# Altium schematic symbol library jlcpcb_2025_04_resistors_extended_1812.schlib: 557 symbols (part 7 of 9)
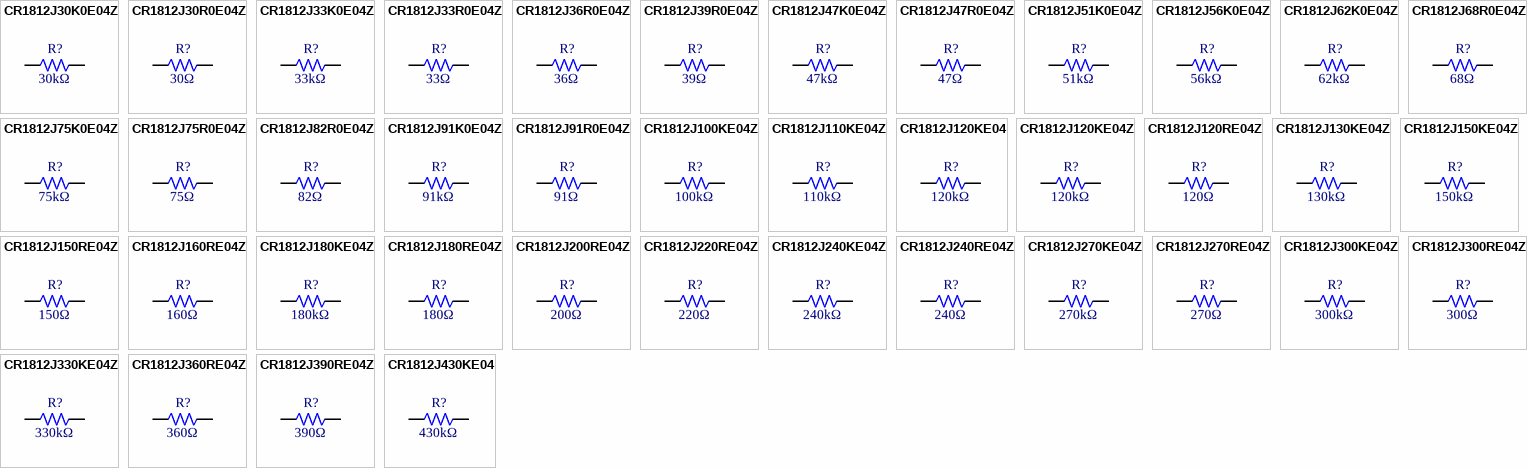
[diagram p19: symbols CR1812J30K0E04Z to CR1812J430KE04]

## CR1812J82R0E04Z
designator R?  Resistance: 82Ω  (hidden comment: *)
Resistor, 82Ω, ±5%, 500mW, 200V, ±100ppm/℃, -55℃~+155℃, SMD 1812; Manufacturer: Uniroyal; Manufacturer Part Number: CR1812J82R0E04Z; Supplier 1: LCSC; Supplier Part Number 1: C174842; JLCPCB Part Number: C174842; Power Rating: 500mW; Category: Resistors; Package Size: 1812; JLCPCB Basic Part: Yes; Tolerance: ±5%; Voltage Rating: 200V; Temperature Coefficient: ±100ppm/℃; Temperature Rating: -55℃~+155℃; ComponentLink1Description: Datasheet; ComponentLink1URL: https://wmsc.lcsc.com/wmsc/upload/file/pdf/v2/lcsc/2304140030_Ever-Ohms-Tech-CR1812J82R0E04Z_C174842.pdf; ComponentLink2Description: JLCPCB Part URL; ComponentLink2URL: https://jlcpcb.com/partdetail/C174842
pins: 1, 2
1 alternate drawing of the same symbol

## CR1812J91K0E04Z
designator R?  Resistance: 91kΩ  (hidden comment: *)
Resistor, 91kΩ, ±5%, 500mW, 200V, ±100ppm/℃, -55℃~+155℃, SMD 1812; Manufacturer: Uniroyal; Manufacturer Part Number: CR1812J91K0E04Z; Supplier 1: LCSC; Supplier Part Number 1: C174895; JLCPCB Part Number: C174895; Power Rating: 500mW; Category: Resistors; Package Size: 1812; JLCPCB Basic Part: Yes; Tolerance: ±5%; Voltage Rating: 200V; Temperature Coefficient: ±100ppm/℃; Temperature Rating: -55℃~+155℃; ComponentLink1Description: Datasheet; ComponentLink1URL: https://wmsc.lcsc.com/wmsc/upload/file/pdf/v2/lcsc/2304140030_Ever-Ohms-Tech-CR1812J91K0E04Z_C174895.pdf; ComponentLink2Description: JLCPCB Part URL; ComponentLink2URL: https://jlcpcb.com/partdetail/C174895
pins: 1, 2
1 alternate drawing of the same symbol

## CR1812J91R0E04Z
designator R?  Resistance: 91Ω  (hidden comment: *)
Resistor, 91Ω, ±5%, 500mW, 200V, ±100ppm/℃, -55℃~+155℃, SMD 1812; Manufacturer: Uniroyal; Manufacturer Part Number: CR1812J91R0E04Z; Supplier 1: LCSC; Supplier Part Number 1: C174843; JLCPCB Part Number: C174843; Power Rating: 500mW; Category: Resistors; Package Size: 1812; JLCPCB Basic Part: Yes; Tolerance: ±5%; Voltage Rating: 200V; Temperature Coefficient: ±100ppm/℃; Temperature Rating: -55℃~+155℃; ComponentLink1Description: Datasheet; ComponentLink1URL: https://wmsc.lcsc.com/wmsc/upload/file/pdf/v2/lcsc/2304140030_Ever-Ohms-Tech-CR1812J91R0E04Z_C174843.pdf; ComponentLink2Description: JLCPCB Part URL; ComponentLink2URL: https://jlcpcb.com/partdetail/C174843
pins: 1, 2
1 alternate drawing of the same symbol

## CR1812J100KE04Z
designator R?  Resistance: 100kΩ  (hidden comment: *)
Resistor, 100kΩ, ±5%, 500mW, 200V, ±100ppm/℃, -55℃~+155℃, SMD 1812; Manufacturer: Uniroyal; Manufacturer Part Number: CR1812J100KE04Z; Supplier 1: LCSC; Supplier Part Number 1: C146963; JLCPCB Part Number: C146963; Power Rating: 500mW; Category: Resistors; Package Size: 1812; JLCPCB Basic Part: Yes; Tolerance: ±5%; Voltage Rating: 200V; Temperature Coefficient: ±100ppm/℃; Temperature Rating: -55℃~+155℃; ComponentLink1Description: Datasheet; ComponentLink1URL: https://wmsc.lcsc.com/wmsc/upload/file/pdf/v2/lcsc/2304140030_Ever-Ohms-Tech-CR1812J100KE04Z_C146963.pdf; ComponentLink2Description: JLCPCB Part URL; ComponentLink2URL: https://jlcpcb.com/partdetail/C146963
pins: 1, 2
1 alternate drawing of the same symbol

## CR1812J110KE04Z
designator R?  Resistance: 110kΩ  (hidden comment: *)
Resistor, 110kΩ, ±5%, 500mW, 200V, ±100ppm/℃, -55℃~+155℃, SMD 1812; Manufacturer: Uniroyal; Manufacturer Part Number: CR1812J110KE04Z; Supplier 1: LCSC; Supplier Part Number 1: C174896; JLCPCB Part Number: C174896; Power Rating: 500mW; Category: Resistors; Package Size: 1812; JLCPCB Basic Part: Yes; Tolerance: ±5%; Voltage Rating: 200V; Temperature Coefficient: ±100ppm/℃; Temperature Rating: -55℃~+155℃; ComponentLink1Description: Datasheet; ComponentLink1URL: https://wmsc.lcsc.com/wmsc/upload/file/pdf/v2/lcsc/2304140030_Ever-Ohms-Tech-CR1812J110KE04Z_C174896.pdf; ComponentLink2Description: JLCPCB Part URL; ComponentLink2URL: https://jlcpcb.com/partdetail/C174896
pins: 1, 2
1 alternate drawing of the same symbol

## CR1812J120KE04
designator R?  Resistance: 120kΩ  (hidden comment: *)
Resistor, 120kΩ, ±5%, 750mW, 200V, ±200ppm/℃, -55℃~+155℃, SMD 1812; Manufacturer: Uniroyal; Manufacturer Part Number: CR1812J120KE04; Supplier 1: LCSC; Supplier Part Number 1: C429627; JLCPCB Part Number: C429627; Power Rating: 750mW; Category: Resistors; Package Size: 1812; JLCPCB Basic Part: Yes; Tolerance: ±5%; Voltage Rating: 200V; Temperature Coefficient: ±200ppm/℃; Temperature Rating: -55℃~+155℃; ComponentLink1Description: Datasheet; ComponentLink1URL: https://wmsc.lcsc.com/wmsc/upload/file/pdf/v2/lcsc/2304140030_Ever-Ohms-Tech-CR1812J120KE04_C429627.pdf; ComponentLink2Description: JLCPCB Part URL; ComponentLink2URL: https://jlcpcb.com/partdetail/C429627
pins: 1, 2
1 alternate drawing of the same symbol

## CR1812J120KE04Z
designator R?  Resistance: 120kΩ  (hidden comment: *)
Resistor, 120kΩ, ±5%, 500mW, 200V, ±100ppm/℃, -55℃~+155℃, SMD 1812; Manufacturer: Uniroyal; Manufacturer Part Number: CR1812J120KE04Z; Supplier 1: LCSC; Supplier Part Number 1: C146910; JLCPCB Part Number: C146910; Power Rating: 500mW; Category: Resistors; Package Size: 1812; JLCPCB Basic Part: Yes; Tolerance: ±5%; Voltage Rating: 200V; Temperature Coefficient: ±100ppm/℃; Temperature Rating: -55℃~+155℃; ComponentLink1Description: Datasheet; ComponentLink1URL: https://wmsc.lcsc.com/wmsc/upload/file/pdf/v2/lcsc/2304140030_Ever-Ohms-Tech-CR1812J120KE04Z_C146910.pdf; ComponentLink2Description: JLCPCB Part URL; ComponentLink2URL: https://jlcpcb.com/partdetail/C146910
pins: 1, 2
1 alternate drawing of the same symbol

## CR1812J120RE04Z
designator R?  Resistance: 120Ω  (hidden comment: *)
Resistor, 120Ω, ±5%, 500mW, 200V, ±100ppm/℃, -55℃~+155℃, SMD 1812; Manufacturer: Uniroyal; Manufacturer Part Number: CR1812J120RE04Z; Supplier 1: LCSC; Supplier Part Number 1: C149833; JLCPCB Part Number: C149833; Power Rating: 500mW; Category: Resistors; Package Size: 1812; JLCPCB Basic Part: Yes; Tolerance: ±5%; Voltage Rating: 200V; Temperature Coefficient: ±100ppm/℃; Temperature Rating: -55℃~+155℃; ComponentLink1Description: Datasheet; ComponentLink1URL: https://wmsc.lcsc.com/wmsc/upload/file/pdf/v2/lcsc/2304140030_Ever-Ohms-Tech-CR1812J120RE04Z_C149833.pdf; ComponentLink2Description: JLCPCB Part URL; ComponentLink2URL: https://jlcpcb.com/partdetail/C149833
pins: 1, 2
1 alternate drawing of the same symbol

## CR1812J130KE04Z
designator R?  Resistance: 130kΩ  (hidden comment: *)
Resistor, 130kΩ, ±5%, 500mW, 200V, ±100ppm/℃, -55℃~+155℃, SMD 1812; Manufacturer: Uniroyal; Manufacturer Part Number: CR1812J130KE04Z; Supplier 1: LCSC; Supplier Part Number 1: C174897; JLCPCB Part Number: C174897; Power Rating: 500mW; Category: Resistors; Package Size: 1812; JLCPCB Basic Part: Yes; Tolerance: ±5%; Voltage Rating: 200V; Temperature Coefficient: ±100ppm/℃; Temperature Rating: -55℃~+155℃; ComponentLink1Description: Datasheet; ComponentLink1URL: https://wmsc.lcsc.com/wmsc/upload/file/pdf/v2/lcsc/2304140030_Ever-Ohms-Tech-CR1812J130KE04Z_C174897.pdf; ComponentLink2Description: JLCPCB Part URL; ComponentLink2URL: https://jlcpcb.com/partdetail/C174897
pins: 1, 2
1 alternate drawing of the same symbol

## CR1812J150KE04Z
designator R?  Resistance: 150kΩ  (hidden comment: *)
Resistor, 150kΩ, ±5%, 500mW, 200V, ±100ppm/℃, -55℃~+155℃, SMD 1812; Manufacturer: Uniroyal; Manufacturer Part Number: CR1812J150KE04Z; Supplier 1: LCSC; Supplier Part Number 1: C149834; JLCPCB Part Number: C149834; Power Rating: 500mW; Category: Resistors; Package Size: 1812; JLCPCB Basic Part: Yes; Tolerance: ±5%; Voltage Rating: 200V; Temperature Coefficient: ±100ppm/℃; Temperature Rating: -55℃~+155℃; ComponentLink1Description: Datasheet; ComponentLink1URL: https://wmsc.lcsc.com/wmsc/upload/file/pdf/v2/lcsc/2304140030_Ever-Ohms-Tech-CR1812J150KE04Z_C149834.pdf; ComponentLink2Description: JLCPCB Part URL; ComponentLink2URL: https://jlcpcb.com/partdetail/C149834
pins: 1, 2
1 alternate drawing of the same symbol

## CR1812J150RE04Z
designator R?  Resistance: 150Ω  (hidden comment: *)
Resistor, 150Ω, ±5%, 500mW, 200V, ±100ppm/℃, -55℃~+155℃, SMD 1812; Manufacturer: Uniroyal; Manufacturer Part Number: CR1812J150RE04Z; Supplier 1: LCSC; Supplier Part Number 1: C174845; JLCPCB Part Number: C174845; Power Rating: 500mW; Category: Resistors; Package Size: 1812; JLCPCB Basic Part: Yes; Tolerance: ±5%; Voltage Rating: 200V; Temperature Coefficient: ±100ppm/℃; Temperature Rating: -55℃~+155℃; ComponentLink1Description: Datasheet; ComponentLink1URL: https://wmsc.lcsc.com/wmsc/upload/file/pdf/v2/lcsc/2304140030_Ever-Ohms-Tech-CR1812J150RE04Z_C174845.pdf; ComponentLink2Description: JLCPCB Part URL; ComponentLink2URL: https://jlcpcb.com/partdetail/C174845
pins: 1, 2
1 alternate drawing of the same symbol

## CR1812J160RE04Z
designator R?  Resistance: 160Ω  (hidden comment: *)
Resistor, 160Ω, ±5%, 500mW, 200V, ±100ppm/℃, -55℃~+155℃, SMD 1812; Manufacturer: Uniroyal; Manufacturer Part Number: CR1812J160RE04Z; Supplier 1: LCSC; Supplier Part Number 1: C174846; JLCPCB Part Number: C174846; Power Rating: 500mW; Category: Resistors; Package Size: 1812; JLCPCB Basic Part: Yes; Tolerance: ±5%; Voltage Rating: 200V; Temperature Coefficient: ±100ppm/℃; Temperature Rating: -55℃~+155℃; ComponentLink1Description: Datasheet; ComponentLink1URL: https://wmsc.lcsc.com/wmsc/upload/file/pdf/v2/lcsc/2304140030_Ever-Ohms-Tech-CR1812J160RE04Z_C174846.pdf; ComponentLink2Description: JLCPCB Part URL; ComponentLink2URL: https://jlcpcb.com/partdetail/C174846
pins: 1, 2
1 alternate drawing of the same symbol

## CR1812J180KE04Z
designator R?  Resistance: 180kΩ  (hidden comment: *)
Resistor, 180kΩ, ±5%, 500mW, 200V, ±100ppm/℃, -55℃~+155℃, SMD 1812; Manufacturer: Uniroyal; Manufacturer Part Number: CR1812J180KE04Z; Supplier 1: LCSC; Supplier Part Number 1: C149836; JLCPCB Part Number: C149836; Power Rating: 500mW; Category: Resistors; Package Size: 1812; JLCPCB Basic Part: Yes; Tolerance: ±5%; Voltage Rating: 200V; Temperature Coefficient: ±100ppm/℃; Temperature Rating: -55℃~+155℃; ComponentLink1Description: Datasheet; ComponentLink1URL: https://wmsc.lcsc.com/wmsc/upload/file/pdf/v2/lcsc/2304140030_Ever-Ohms-Tech-CR1812J180KE04Z_C149836.pdf; ComponentLink2Description: JLCPCB Part URL; ComponentLink2URL: https://jlcpcb.com/partdetail/C149836
pins: 1, 2
1 alternate drawing of the same symbol

## CR1812J180RE04Z
designator R?  Resistance: 180Ω  (hidden comment: *)
Resistor, 180Ω, ±5%, 500mW, 200V, ±100ppm/℃, -55℃~+155℃, SMD 1812; Manufacturer: Uniroyal; Manufacturer Part Number: CR1812J180RE04Z; Supplier 1: LCSC; Supplier Part Number 1: C174847; JLCPCB Part Number: C174847; Power Rating: 500mW; Category: Resistors; Package Size: 1812; JLCPCB Basic Part: Yes; Tolerance: ±5%; Voltage Rating: 200V; Temperature Coefficient: ±100ppm/℃; Temperature Rating: -55℃~+155℃; ComponentLink1Description: Datasheet; ComponentLink1URL: https://wmsc.lcsc.com/wmsc/upload/file/pdf/v2/lcsc/2304140030_Ever-Ohms-Tech-CR1812J180RE04Z_C174847.pdf; ComponentLink2Description: JLCPCB Part URL; ComponentLink2URL: https://jlcpcb.com/partdetail/C174847
pins: 1, 2
1 alternate drawing of the same symbol

## CR1812J200RE04Z
designator R?  Resistance: 200Ω  (hidden comment: *)
Resistor, 200Ω, ±5%, 500mW, 200V, ±100ppm/℃, -55℃~+155℃, SMD 1812; Manufacturer: Uniroyal; Manufacturer Part Number: CR1812J200RE04Z; Supplier 1: LCSC; Supplier Part Number 1: C332127; JLCPCB Part Number: C332127; Power Rating: 500mW; Category: Resistors; Package Size: 1812; JLCPCB Basic Part: Yes; Tolerance: ±5%; Voltage Rating: 200V; Temperature Coefficient: ±100ppm/℃; Temperature Rating: -55℃~+155℃; ComponentLink1Description: Datasheet; ComponentLink1URL: https://wmsc.lcsc.com/wmsc/upload/file/pdf/v2/lcsc/2304140030_Ever-Ohms-Tech-CR1812J200RE04Z_C332127.pdf; ComponentLink2Description: JLCPCB Part URL; ComponentLink2URL: https://jlcpcb.com/partdetail/C332127
pins: 1, 2
1 alternate drawing of the same symbol

## CR1812J220RE04Z
designator R?  Resistance: 220Ω  (hidden comment: *)
Resistor, 220Ω, ±5%, 500mW, 200V, ±100ppm/℃, -55℃~+155℃, SMD 1812; Manufacturer: Uniroyal; Manufacturer Part Number: CR1812J220RE04Z; Supplier 1: LCSC; Supplier Part Number 1: C174848; JLCPCB Part Number: C174848; Power Rating: 500mW; Category: Resistors; Package Size: 1812; JLCPCB Basic Part: Yes; Tolerance: ±5%; Voltage Rating: 200V; Temperature Coefficient: ±100ppm/℃; Temperature Rating: -55℃~+155℃; ComponentLink1Description: Datasheet; ComponentLink1URL: https://wmsc.lcsc.com/wmsc/upload/file/pdf/v2/lcsc/2304140030_Ever-Ohms-Tech-CR1812J220RE04Z_C174848.pdf; ComponentLink2Description: JLCPCB Part URL; ComponentLink2URL: https://jlcpcb.com/partdetail/C174848
pins: 1, 2
1 alternate drawing of the same symbol

## CR1812J240KE04Z
designator R?  Resistance: 240kΩ  (hidden comment: *)
Resistor, 240kΩ, ±5%, 500mW, 200V, ±100ppm/℃, -55℃~+155℃, SMD 1812; Manufacturer: Uniroyal; Manufacturer Part Number: CR1812J240KE04Z; Supplier 1: LCSC; Supplier Part Number 1: C174900; JLCPCB Part Number: C174900; Power Rating: 500mW; Category: Resistors; Package Size: 1812; JLCPCB Basic Part: Yes; Tolerance: ±5%; Voltage Rating: 200V; Temperature Coefficient: ±100ppm/℃; Temperature Rating: -55℃~+155℃; ComponentLink1Description: Datasheet; ComponentLink1URL: https://wmsc.lcsc.com/wmsc/upload/file/pdf/v2/lcsc/2304140030_Ever-Ohms-Tech-CR1812J240KE04Z_C174900.pdf; ComponentLink2Description: JLCPCB Part URL; ComponentLink2URL: https://jlcpcb.com/partdetail/C174900
pins: 1, 2
1 alternate drawing of the same symbol

## CR1812J240RE04Z
designator R?  Resistance: 240Ω  (hidden comment: *)
Resistor, 240Ω, ±5%, 500mW, 200V, ±100ppm/℃, -55℃~+155℃, SMD 1812; Manufacturer: Uniroyal; Manufacturer Part Number: CR1812J240RE04Z; Supplier 1: LCSC; Supplier Part Number 1: C149837; JLCPCB Part Number: C149837; Power Rating: 500mW; Category: Resistors; Package Size: 1812; JLCPCB Basic Part: Yes; Tolerance: ±5%; Voltage Rating: 200V; Temperature Coefficient: ±100ppm/℃; Temperature Rating: -55℃~+155℃; ComponentLink1Description: Datasheet; ComponentLink1URL: https://wmsc.lcsc.com/wmsc/upload/file/pdf/v2/lcsc/2304140030_Ever-Ohms-Tech-CR1812J240RE04Z_C149837.pdf; ComponentLink2Description: JLCPCB Part URL; ComponentLink2URL: https://jlcpcb.com/partdetail/C149837
pins: 1, 2
1 alternate drawing of the same symbol

## CR1812J270KE04Z
designator R?  Resistance: 270kΩ  (hidden comment: *)
Resistor, 270kΩ, ±5%, 500mW, 200V, ±100ppm/℃, -55℃~+155℃, SMD 1812; Manufacturer: Uniroyal; Manufacturer Part Number: CR1812J270KE04Z; Supplier 1: LCSC; Supplier Part Number 1: C174901; JLCPCB Part Number: C174901; Power Rating: 500mW; Category: Resistors; Package Size: 1812; JLCPCB Basic Part: Yes; Tolerance: ±5%; Voltage Rating: 200V; Temperature Coefficient: ±100ppm/℃; Temperature Rating: -55℃~+155℃; ComponentLink1Description: Datasheet; ComponentLink1URL: https://wmsc.lcsc.com/wmsc/upload/file/pdf/v2/lcsc/2404011707_Ever-Ohms-Tech-CR1812J270KE04Z_C174901.pdf; ComponentLink2Description: JLCPCB Part URL; ComponentLink2URL: https://jlcpcb.com/partdetail/C174901
pins: 1, 2
1 alternate drawing of the same symbol

## CR1812J270RE04Z
designator R?  Resistance: 270Ω  (hidden comment: *)
Resistor, 270Ω, ±5%, 500mW, 200V, ±100ppm/℃, -55℃~+155℃, SMD 1812; Manufacturer: Uniroyal; Manufacturer Part Number: CR1812J270RE04Z; Supplier 1: LCSC; Supplier Part Number 1: C149838; JLCPCB Part Number: C149838; Power Rating: 500mW; Category: Resistors; Package Size: 1812; JLCPCB Basic Part: Yes; Tolerance: ±5%; Voltage Rating: 200V; Temperature Coefficient: ±100ppm/℃; Temperature Rating: -55℃~+155℃; ComponentLink1Description: Datasheet; ComponentLink1URL: https://wmsc.lcsc.com/wmsc/upload/file/pdf/v2/lcsc/2304140030_Ever-Ohms-Tech-CR1812J270RE04Z_C149838.pdf; ComponentLink2Description: JLCPCB Part URL; ComponentLink2URL: https://jlcpcb.com/partdetail/C149838
pins: 1, 2
1 alternate drawing of the same symbol

## CR1812J300KE04Z
designator R?  Resistance: 300kΩ  (hidden comment: *)
Resistor, 300kΩ, ±5%, 500mW, 200V, ±100ppm/℃, -55℃~+155℃, SMD 1812; Manufacturer: Uniroyal; Manufacturer Part Number: CR1812J300KE04Z; Supplier 1: LCSC; Supplier Part Number 1: C174902; JLCPCB Part Number: C174902; Power Rating: 500mW; Category: Resistors; Package Size: 1812; JLCPCB Basic Part: Yes; Tolerance: ±5%; Voltage Rating: 200V; Temperature Coefficient: ±100ppm/℃; Temperature Rating: -55℃~+155℃; ComponentLink1Description: Datasheet; ComponentLink1URL: https://wmsc.lcsc.com/wmsc/upload/file/pdf/v2/lcsc/2304140030_Ever-Ohms-Tech-CR1812J300KE04Z_C174902.pdf; ComponentLink2Description: JLCPCB Part URL; ComponentLink2URL: https://jlcpcb.com/partdetail/C174902
pins: 1, 2
1 alternate drawing of the same symbol

## CR1812J300RE04Z
designator R?  Resistance: 300Ω  (hidden comment: *)
Resistor, 300Ω, ±5%, 500mW, 200V, ±100ppm/℃, -55℃~+155℃, SMD 1812; Manufacturer: Uniroyal; Manufacturer Part Number: CR1812J300RE04Z; Supplier 1: LCSC; Supplier Part Number 1: C174849; JLCPCB Part Number: C174849; Power Rating: 500mW; Category: Resistors; Package Size: 1812; JLCPCB Basic Part: Yes; Tolerance: ±5%; Voltage Rating: 200V; Temperature Coefficient: ±100ppm/℃; Temperature Rating: -55℃~+155℃; ComponentLink1Description: Datasheet; ComponentLink1URL: https://wmsc.lcsc.com/wmsc/upload/file/pdf/v2/lcsc/2304140030_Ever-Ohms-Tech-CR1812J300RE04Z_C174849.pdf; ComponentLink2Description: JLCPCB Part URL; ComponentLink2URL: https://jlcpcb.com/partdetail/C174849
pins: 1, 2
1 alternate drawing of the same symbol

## CR1812J330KE04Z
designator R?  Resistance: 330kΩ  (hidden comment: *)
Resistor, 330kΩ, ±5%, 500mW, 200V, ±100ppm/℃, -55℃~+155℃, SMD 1812; Manufacturer: Uniroyal; Manufacturer Part Number: CR1812J330KE04Z; Supplier 1: LCSC; Supplier Part Number 1: C174903; JLCPCB Part Number: C174903; Power Rating: 500mW; Category: Resistors; Package Size: 1812; JLCPCB Basic Part: Yes; Tolerance: ±5%; Voltage Rating: 200V; Temperature Coefficient: ±100ppm/℃; Temperature Rating: -55℃~+155℃; ComponentLink1Description: Datasheet; ComponentLink1URL: https://wmsc.lcsc.com/wmsc/upload/file/pdf/v2/lcsc/2304140030_Ever-Ohms-Tech-CR1812J330KE04Z_C174903.pdf; ComponentLink2Description: JLCPCB Part URL; ComponentLink2URL: https://jlcpcb.com/partdetail/C174903
pins: 1, 2
1 alternate drawing of the same symbol

## CR1812J360RE04Z
designator R?  Resistance: 360Ω  (hidden comment: *)
Resistor, 360Ω, ±5%, 500mW, 200V, ±100ppm/℃, -55℃~+155℃, SMD 1812; Manufacturer: Uniroyal; Manufacturer Part Number: CR1812J360RE04Z; Supplier 1: LCSC; Supplier Part Number 1: C174850; JLCPCB Part Number: C174850; Power Rating: 500mW; Category: Resistors; Package Size: 1812; JLCPCB Basic Part: Yes; Tolerance: ±5%; Voltage Rating: 200V; Temperature Coefficient: ±100ppm/℃; Temperature Rating: -55℃~+155℃; ComponentLink1Description: Datasheet; ComponentLink1URL: https://wmsc.lcsc.com/wmsc/upload/file/pdf/v2/lcsc/2304140030_Ever-Ohms-Tech-CR1812J360RE04Z_C174850.pdf; ComponentLink2Description: JLCPCB Part URL; ComponentLink2URL: https://jlcpcb.com/partdetail/C174850
pins: 1, 2
1 alternate drawing of the same symbol

## CR1812J390RE04Z
designator R?  Resistance: 390Ω  (hidden comment: *)
Resistor, 390Ω, ±5%, 500mW, 200V, ±100ppm/℃, -55℃~+155℃, SMD 1812; Manufacturer: Uniroyal; Manufacturer Part Number: CR1812J390RE04Z; Supplier 1: LCSC; Supplier Part Number 1: C174851; JLCPCB Part Number: C174851; Power Rating: 500mW; Category: Resistors; Package Size: 1812; JLCPCB Basic Part: Yes; Tolerance: ±5%; Voltage Rating: 200V; Temperature Coefficient: ±100ppm/℃; Temperature Rating: -55℃~+155℃; ComponentLink1Description: Datasheet; ComponentLink1URL: https://wmsc.lcsc.com/wmsc/upload/file/pdf/v2/lcsc/2304140030_Ever-Ohms-Tech-CR1812J390RE04Z_C174851.pdf; ComponentLink2Description: JLCPCB Part URL; ComponentLink2URL: https://jlcpcb.com/partdetail/C174851
pins: 1, 2
1 alternate drawing of the same symbol

## CR1812J430KE04
designator R?  Resistance: 430kΩ  (hidden comment: *)
Resistor, 430kΩ, ±5%, 750mW, 200V, ±200ppm/℃, -55℃~+155℃, SMD 1812; Manufacturer: Uniroyal; Manufacturer Part Number: CR1812J430KE04; Supplier 1: LCSC; Supplier Part Number 1: C429446; JLCPCB Part Number: C429446; Power Rating: 750mW; Category: Resistors; Package Size: 1812; JLCPCB Basic Part: Yes; Tolerance: ±5%; Voltage Rating: 200V; Temperature Coefficient: ±200ppm/℃; Temperature Rating: -55℃~+155℃; ComponentLink1Description: Datasheet; ComponentLink1URL: https://wmsc.lcsc.com/wmsc/upload/file/pdf/v2/lcsc/2304140030_Ever-Ohms-Tech-CR1812J430KE04_C429446.pdf; ComponentLink2Description: JLCPCB Part URL; ComponentLink2URL: https://jlcpcb.com/partdetail/C429446
pins: 1, 2
1 alternate drawing of the same symbol

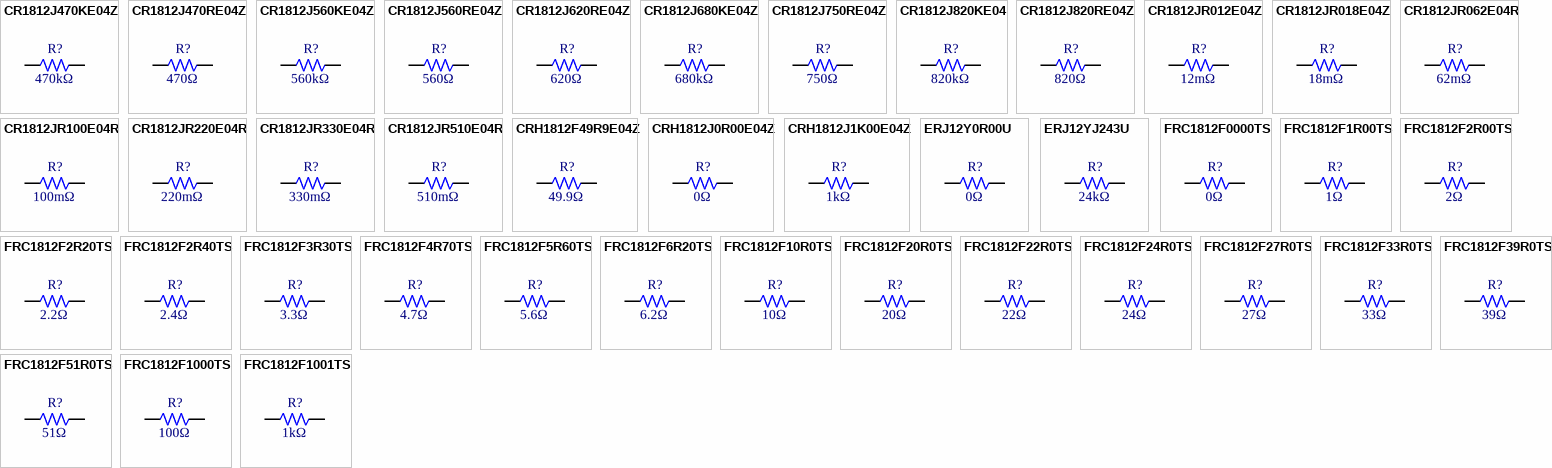
[diagram p10: symbols CR1812J470KE04Z to FRC1812F1001TS]

## CR1812J470KE04Z
designator R?  Resistance: 470kΩ  (hidden comment: *)
Resistor, 470kΩ, ±5%, 500mW, 200V, ±100ppm/℃, -55℃~+155℃, SMD 1812; Manufacturer: Uniroyal; Manufacturer Part Number: CR1812J470KE04Z; Supplier 1: LCSC; Supplier Part Number 1: C147060; JLCPCB Part Number: C147060; Power Rating: 500mW; Category: Resistors; Package Size: 1812; JLCPCB Basic Part: Yes; Tolerance: ±5%; Voltage Rating: 200V; Temperature Coefficient: ±100ppm/℃; Temperature Rating: -55℃~+155℃; ComponentLink1Description: Datasheet; ComponentLink1URL: https://wmsc.lcsc.com/wmsc/upload/file/pdf/v2/lcsc/2304140030_Ever-Ohms-Tech-CR1812J470KE04Z_C147060.pdf; ComponentLink2Description: JLCPCB Part URL; ComponentLink2URL: https://jlcpcb.com/partdetail/C147060
pins: 1, 2
1 alternate drawing of the same symbol

## CR1812J470RE04Z
designator R?  Resistance: 470Ω  (hidden comment: *)
Resistor, 470Ω, ±5%, 500mW, 200V, ±100ppm/℃, -55℃~+155℃, SMD 1812; Manufacturer: Uniroyal; Manufacturer Part Number: CR1812J470RE04Z; Supplier 1: LCSC; Supplier Part Number 1: C149840; JLCPCB Part Number: C149840; Power Rating: 500mW; Category: Resistors; Package Size: 1812; JLCPCB Basic Part: Yes; Tolerance: ±5%; Voltage Rating: 200V; Temperature Coefficient: ±100ppm/℃; Temperature Rating: -55℃~+155℃; ComponentLink1Description: Datasheet; ComponentLink1URL: https://wmsc.lcsc.com/wmsc/upload/file/pdf/v2/lcsc/2304140030_Ever-Ohms-Tech-CR1812J470RE04Z_C149840.pdf; ComponentLink2Description: JLCPCB Part URL; ComponentLink2URL: https://jlcpcb.com/partdetail/C149840
pins: 1, 2
1 alternate drawing of the same symbol

## CR1812J560KE04Z
designator R?  Resistance: 560kΩ  (hidden comment: *)
Resistor, 560kΩ, ±5%, 500mW, 200V, ±100ppm/℃, -55℃~+155℃, SMD 1812; Manufacturer: Uniroyal; Manufacturer Part Number: CR1812J560KE04Z; Supplier 1: LCSC; Supplier Part Number 1: C174906; JLCPCB Part Number: C174906; Power Rating: 500mW; Category: Resistors; Package Size: 1812; JLCPCB Basic Part: Yes; Tolerance: ±5%; Voltage Rating: 200V; Temperature Coefficient: ±100ppm/℃; Temperature Rating: -55℃~+155℃; ComponentLink1Description: Datasheet; ComponentLink1URL: https://wmsc.lcsc.com/wmsc/upload/file/pdf/v2/lcsc/2304140030_Ever-Ohms-Tech-CR1812J560KE04Z_C174906.pdf; ComponentLink2Description: JLCPCB Part URL; ComponentLink2URL: https://jlcpcb.com/partdetail/C174906
pins: 1, 2
1 alternate drawing of the same symbol

## CR1812J560RE04Z
designator R?  Resistance: 560Ω  (hidden comment: *)
Resistor, 560Ω, ±5%, 500mW, 200V, ±100ppm/℃, -55℃~+155℃, SMD 1812; Manufacturer: Uniroyal; Manufacturer Part Number: CR1812J560RE04Z; Supplier 1: LCSC; Supplier Part Number 1: C174853; JLCPCB Part Number: C174853; Power Rating: 500mW; Category: Resistors; Package Size: 1812; JLCPCB Basic Part: Yes; Tolerance: ±5%; Voltage Rating: 200V; Temperature Coefficient: ±100ppm/℃; Temperature Rating: -55℃~+155℃; ComponentLink1Description: Datasheet; ComponentLink1URL: https://wmsc.lcsc.com/wmsc/upload/file/pdf/v2/lcsc/2304140030_Ever-Ohms-Tech-CR1812J560RE04Z_C174853.pdf; ComponentLink2Description: JLCPCB Part URL; ComponentLink2URL: https://jlcpcb.com/partdetail/C174853
pins: 1, 2
1 alternate drawing of the same symbol

## CR1812J620RE04Z
designator R?  Resistance: 620Ω  (hidden comment: *)
Resistor, 620Ω, ±5%, 500mW, 200V, ±100ppm/℃, -55℃~+155℃, SMD 1812; Manufacturer: Uniroyal; Manufacturer Part Number: CR1812J620RE04Z; Supplier 1: LCSC; Supplier Part Number 1: C174854; JLCPCB Part Number: C174854; Power Rating: 500mW; Category: Resistors; Package Size: 1812; JLCPCB Basic Part: Yes; Tolerance: ±5%; Voltage Rating: 200V; Temperature Coefficient: ±100ppm/℃; Temperature Rating: -55℃~+155℃; ComponentLink1Description: Datasheet; ComponentLink1URL: https://wmsc.lcsc.com/wmsc/upload/file/pdf/v2/lcsc/2304140030_Ever-Ohms-Tech-CR1812J620RE04Z_C174854.pdf; ComponentLink2Description: JLCPCB Part URL; ComponentLink2URL: https://jlcpcb.com/partdetail/C174854
pins: 1, 2
1 alternate drawing of the same symbol

## CR1812J680KE04Z
designator R?  Resistance: 680kΩ  (hidden comment: *)
Resistor, 680kΩ, ±5%, 500mW, 200V, ±100ppm/℃, -55℃~+155℃, SMD 1812; Manufacturer: Uniroyal; Manufacturer Part Number: CR1812J680KE04Z; Supplier 1: LCSC; Supplier Part Number 1: C174908; JLCPCB Part Number: C174908; Power Rating: 500mW; Category: Resistors; Package Size: 1812; JLCPCB Basic Part: Yes; Tolerance: ±5%; Voltage Rating: 200V; Temperature Coefficient: ±100ppm/℃; Temperature Rating: -55℃~+155℃; ComponentLink1Description: Datasheet; ComponentLink1URL: https://wmsc.lcsc.com/wmsc/upload/file/pdf/v2/lcsc/2304140030_Ever-Ohms-Tech-CR1812J680KE04Z_C174908.pdf; ComponentLink2Description: JLCPCB Part URL; ComponentLink2URL: https://jlcpcb.com/partdetail/C174908
pins: 1, 2
1 alternate drawing of the same symbol

## CR1812J750RE04Z
designator R?  Resistance: 750Ω  (hidden comment: *)
Resistor, 750Ω, ±5%, 500mW, 200V, ±100ppm/℃, -55℃~+155℃, SMD 1812; Manufacturer: Uniroyal; Manufacturer Part Number: CR1812J750RE04Z; Supplier 1: LCSC; Supplier Part Number 1: C174855; JLCPCB Part Number: C174855; Power Rating: 500mW; Category: Resistors; Package Size: 1812; JLCPCB Basic Part: Yes; Tolerance: ±5%; Voltage Rating: 200V; Temperature Coefficient: ±100ppm/℃; Temperature Rating: -55℃~+155℃; ComponentLink1Description: Datasheet; ComponentLink1URL: https://wmsc.lcsc.com/wmsc/upload/file/pdf/v2/lcsc/2304140030_Ever-Ohms-Tech-CR1812J750RE04Z_C174855.pdf; ComponentLink2Description: JLCPCB Part URL; ComponentLink2URL: https://jlcpcb.com/partdetail/C174855
pins: 1, 2
1 alternate drawing of the same symbol

## CR1812J820KE04
designator R?  Resistance: 820kΩ  (hidden comment: *)
Resistor, 820kΩ, ±5%, 750mW, 200V, ±200ppm/℃, -55℃~+155℃, SMD 1812; Manufacturer: Uniroyal; Manufacturer Part Number: CR1812J820KE04; Supplier 1: LCSC; Supplier Part Number 1: C429476; JLCPCB Part Number: C429476; Power Rating: 750mW; Category: Resistors; Package Size: 1812; JLCPCB Basic Part: Yes; Tolerance: ±5%; Voltage Rating: 200V; Temperature Coefficient: ±200ppm/℃; Temperature Rating: -55℃~+155℃; ComponentLink1Description: Datasheet; ComponentLink1URL: https://wmsc.lcsc.com/wmsc/upload/file/pdf/v2/lcsc/2304140030_Ever-Ohms-Tech-CR1812J820KE04_C429476.pdf; ComponentLink2Description: JLCPCB Part URL; ComponentLink2URL: https://jlcpcb.com/partdetail/C429476
pins: 1, 2
1 alternate drawing of the same symbol

## CR1812J820RE04Z
designator R?  Resistance: 820Ω  (hidden comment: *)
Resistor, 820Ω, ±5%, 500mW, 200V, ±100ppm/℃, -55℃~+155℃, SMD 1812; Manufacturer: Uniroyal; Manufacturer Part Number: CR1812J820RE04Z; Supplier 1: LCSC; Supplier Part Number 1: C147022; JLCPCB Part Number: C147022; Power Rating: 500mW; Category: Resistors; Package Size: 1812; JLCPCB Basic Part: Yes; Tolerance: ±5%; Voltage Rating: 200V; Temperature Coefficient: ±100ppm/℃; Temperature Rating: -55℃~+155℃; ComponentLink1Description: Datasheet; ComponentLink1URL: https://wmsc.lcsc.com/wmsc/upload/file/pdf/v2/lcsc/2304140030_Ever-Ohms-Tech-CR1812J820RE04Z_C147022.pdf; ComponentLink2Description: JLCPCB Part URL; ComponentLink2URL: https://jlcpcb.com/partdetail/C147022
pins: 1, 2
1 alternate drawing of the same symbol

## CR1812JR012E04Z
designator R?  Resistance: 12mΩ  (hidden comment: *)
Resistor, 12mΩ, ±5%, 500mW, 200V, -55℃~+155℃, SMD 1812; Manufacturer: Uniroyal; Manufacturer Part Number: CR1812JR012E04Z; Supplier 1: LCSC; Supplier Part Number 1: C165419; JLCPCB Part Number: C165419; Power Rating: 500mW; Category: Resistors; Package Size: 1812; JLCPCB Basic Part: Yes; Tolerance: ±5%; Voltage Rating: 200V; Temperature Rating: -55℃~+155℃; ComponentLink1Description: Datasheet; ComponentLink1URL: https://wmsc.lcsc.com/wmsc/upload/file/pdf/v2/lcsc/2304140030_Ever-Ohms-Tech-CR1812JR012E04Z_C165419.pdf; ComponentLink2Description: JLCPCB Part URL; ComponentLink2URL: https://jlcpcb.com/partdetail/C165419
pins: 1, 2
1 alternate drawing of the same symbol

## CR1812JR018E04Z
designator R?  Resistance: 18mΩ  (hidden comment: *)
Resistor, 18mΩ, ±5%, 500mW, 200V, -55℃~+155℃, SMD 1812; Manufacturer: Uniroyal; Manufacturer Part Number: CR1812JR018E04Z; Supplier 1: LCSC; Supplier Part Number 1: C165418; JLCPCB Part Number: C165418; Power Rating: 500mW; Category: Resistors; Package Size: 1812; JLCPCB Basic Part: Yes; Tolerance: ±5%; Voltage Rating: 200V; Temperature Rating: -55℃~+155℃; ComponentLink1Description: Datasheet; ComponentLink1URL: https://wmsc.lcsc.com/wmsc/upload/file/pdf/v2/lcsc/2304140030_Ever-Ohms-Tech-CR1812JR018E04Z_C165418.pdf; ComponentLink2Description: JLCPCB Part URL; ComponentLink2URL: https://jlcpcb.com/partdetail/C165418
pins: 1, 2
1 alternate drawing of the same symbol

## CR1812JR062E04R
designator R?  Resistance: 62mΩ  (hidden comment: *)
Resistor, 62mΩ, ±5%, 500mW, 200V, -55℃~+155℃, SMD 1812; Manufacturer: Uniroyal; Manufacturer Part Number: CR1812JR062E04R; Supplier 1: LCSC; Supplier Part Number 1: C153312; JLCPCB Part Number: C153312; Power Rating: 500mW; Category: Resistors; Package Size: 1812; JLCPCB Basic Part: Yes; Tolerance: ±5%; Voltage Rating: 200V; Temperature Rating: -55℃~+155℃; ComponentLink1Description: Datasheet; ComponentLink1URL: https://wmsc.lcsc.com/wmsc/upload/file/pdf/v2/lcsc/2304140030_Ever-Ohms-Tech-CR1812JR062E04R_C153312.pdf; ComponentLink2Description: JLCPCB Part URL; ComponentLink2URL: https://jlcpcb.com/partdetail/C153312
pins: 1, 2
1 alternate drawing of the same symbol

## CR1812JR100E04R
designator R?  Resistance: 100mΩ  (hidden comment: *)
Resistor, 100mΩ, ±5%, 500mW, 200V, -55℃~+155℃, SMD 1812; Manufacturer: Uniroyal; Manufacturer Part Number: CR1812JR100E04R; Supplier 1: LCSC; Supplier Part Number 1: C165416; JLCPCB Part Number: C165416; Power Rating: 500mW; Category: Resistors; Package Size: 1812; JLCPCB Basic Part: Yes; Tolerance: ±5%; Voltage Rating: 200V; Temperature Rating: -55℃~+155℃; ComponentLink1Description: Datasheet; ComponentLink1URL: https://wmsc.lcsc.com/wmsc/upload/file/pdf/v2/lcsc/2304140030_Ever-Ohms-Tech-CR1812JR100E04R_C165416.pdf; ComponentLink2Description: JLCPCB Part URL; ComponentLink2URL: https://jlcpcb.com/partdetail/C165416
pins: 1, 2
1 alternate drawing of the same symbol

## CR1812JR220E04R
designator R?  Resistance: 220mΩ  (hidden comment: *)
Resistor, 220mΩ, ±5%, 500mW, 200V, -55℃~+155℃, SMD 1812; Manufacturer: Uniroyal; Manufacturer Part Number: CR1812JR220E04R; Supplier 1: LCSC; Supplier Part Number 1: C149828; JLCPCB Part Number: C149828; Power Rating: 500mW; Category: Resistors; Package Size: 1812; JLCPCB Basic Part: Yes; Tolerance: ±5%; Voltage Rating: 200V; Temperature Rating: -55℃~+155℃; ComponentLink1Description: Datasheet; ComponentLink1URL: https://wmsc.lcsc.com/wmsc/upload/file/pdf/v2/lcsc/2304140030_Ever-Ohms-Tech-CR1812JR220E04R_C149828.pdf; ComponentLink2Description: JLCPCB Part URL; ComponentLink2URL: https://jlcpcb.com/partdetail/C149828
pins: 1, 2
1 alternate drawing of the same symbol

## CR1812JR330E04R
designator R?  Resistance: 330mΩ  (hidden comment: *)
Resistor, 330mΩ, ±5%, 500mW, 200V, -55℃~+155℃, SMD 1812; Manufacturer: Uniroyal; Manufacturer Part Number: CR1812JR330E04R; Supplier 1: LCSC; Supplier Part Number 1: C149829; JLCPCB Part Number: C149829; Power Rating: 500mW; Category: Resistors; Package Size: 1812; JLCPCB Basic Part: Yes; Tolerance: ±5%; Voltage Rating: 200V; Temperature Rating: -55℃~+155℃; ComponentLink1Description: Datasheet; ComponentLink1URL: https://wmsc.lcsc.com/wmsc/upload/file/pdf/v2/lcsc/2304140030_Ever-Ohms-Tech-CR1812JR330E04R_C149829.pdf; ComponentLink2Description: JLCPCB Part URL; ComponentLink2URL: https://jlcpcb.com/partdetail/C149829
pins: 1, 2
1 alternate drawing of the same symbol

## CR1812JR510E04R
designator R?  Resistance: 510mΩ  (hidden comment: *)
Resistor, 510mΩ, ±5%, 500mW, 200V, -55℃~+155℃, SMD 1812; Manufacturer: Uniroyal; Manufacturer Part Number: CR1812JR510E04R; Supplier 1: LCSC; Supplier Part Number 1: C149831; JLCPCB Part Number: C149831; Power Rating: 500mW; Category: Resistors; Package Size: 1812; JLCPCB Basic Part: Yes; Tolerance: ±5%; Voltage Rating: 200V; Temperature Rating: -55℃~+155℃; ComponentLink1Description: Datasheet; ComponentLink1URL: https://wmsc.lcsc.com/wmsc/upload/file/pdf/v2/lcsc/2304140030_Ever-Ohms-Tech-CR1812JR510E04R_C149831.pdf; ComponentLink2Description: JLCPCB Part URL; ComponentLink2URL: https://jlcpcb.com/partdetail/C149831
pins: 1, 2
1 alternate drawing of the same symbol

## CRH1812F49R9E04Z
designator R?  Resistance: 49.9Ω  (hidden comment: *)
Resistor, 49.9Ω, ±1%, 1W, 200V, ±100ppm/℃, -55℃~+155℃, SMD 1812; Manufacturer: Uniroyal; Manufacturer Part Number: CRH1812F49R9E04Z; Supplier 1: LCSC; Supplier Part Number 1: C174713; JLCPCB Part Number: C174713; Power Rating: 1W; Category: Resistors; Package Size: 1812; JLCPCB Basic Part: Yes; Tolerance: ±1%; Voltage Rating: 200V; Temperature Coefficient: ±100ppm/℃; Temperature Rating: -55℃~+155℃; ComponentLink1Description: Datasheet; ComponentLink1URL: https://wmsc.lcsc.com/wmsc/upload/file/pdf/v2/lcsc/2304140030_Ever-Ohms-Tech-CRH1812F49R9E04Z_C174713.pdf; ComponentLink2Description: JLCPCB Part URL; ComponentLink2URL: https://jlcpcb.com/partdetail/C174713
pins: 1, 2
1 alternate drawing of the same symbol

## CRH1812J0R00E04Z
designator R?  Resistance: 0Ω  (hidden comment: *)
Resistor, 0Ω, ±5%, 1W, 200V, -55℃~+155℃, SMD 1812; Manufacturer: Uniroyal; Manufacturer Part Number: CRH1812J0R00E04Z; Supplier 1: LCSC; Supplier Part Number 1: C174812; JLCPCB Part Number: C174812; Power Rating: 1W; Category: Resistors; Package Size: 1812; JLCPCB Basic Part: Yes; Tolerance: ±5%; Voltage Rating: 200V; Temperature Rating: -55℃~+155℃; ComponentLink1Description: Datasheet; ComponentLink1URL: https://wmsc.lcsc.com/wmsc/upload/file/pdf/v2/lcsc/2304140030_Ever-Ohms-Tech-CRH1812J0R00E04Z_C174812.pdf; ComponentLink2Description: JLCPCB Part URL; ComponentLink2URL: https://jlcpcb.com/partdetail/C174812
pins: 1, 2
1 alternate drawing of the same symbol

## CRH1812J1K00E04Z
designator R?  Resistance: 1kΩ  (hidden comment: *)
Resistor, 1kΩ, ±5%, 1W, 200V, ±100ppm/℃, -55℃~+155℃, SMD 1812; Manufacturer: Uniroyal; Manufacturer Part Number: CRH1812J1K00E04Z; Supplier 1: LCSC; Supplier Part Number 1: C174858; JLCPCB Part Number: C174858; Power Rating: 1W; Category: Resistors; Package Size: 1812; JLCPCB Basic Part: Yes; Tolerance: ±5%; Voltage Rating: 200V; Temperature Coefficient: ±100ppm/℃; Temperature Rating: -55℃~+155℃; ComponentLink1Description: Datasheet; ComponentLink1URL: https://wmsc.lcsc.com/wmsc/upload/file/pdf/v2/lcsc/2304140030_Ever-Ohms-Tech-CRH1812J1K00E04Z_C174858.pdf; ComponentLink2Description: JLCPCB Part URL; ComponentLink2URL: https://jlcpcb.com/partdetail/C174858
pins: 1, 2
1 alternate drawing of the same symbol

## ERJ12Y0R00U
designator R?  Resistance: 0Ω  (hidden comment: *)
Resistor, 0Ω, 750mW, -55℃~+155℃, SMD 1812; Manufacturer: Uniroyal; Manufacturer Part Number: ERJ12Y0R00U; Supplier 1: LCSC; Supplier Part Number 1: C713407; JLCPCB Part Number: C713407; Power Rating: 750mW; Category: Resistors; Package Size: 1812; JLCPCB Basic Part: Yes; Temperature Rating: -55℃~+155℃; ComponentLink1Description: Datasheet; ComponentLink1URL: https://wmsc.lcsc.com/wmsc/upload/file/pdf/v2/lcsc/2011031707_PANASONIC-ERJ12Y0R00U_C713407.pdf; ComponentLink2Description: JLCPCB Part URL; ComponentLink2URL: https://jlcpcb.com/partdetail/C713407
pins: 1, 2
1 alternate drawing of the same symbol

## ERJ12YJ243U
designator R?  Resistance: 24kΩ  (hidden comment: *)
Resistor, 24kΩ, ±5%, 750mW, 500V, -55℃~+155℃, SMD 1812; Manufacturer: Uniroyal; Manufacturer Part Number: ERJ12YJ243U; Supplier 1: LCSC; Supplier Part Number 1: C278565; JLCPCB Part Number: C278565; Power Rating: 750mW; Category: Resistors; Package Size: 1812; JLCPCB Basic Part: Yes; Tolerance: ±5%; Voltage Rating: 500V; Temperature Rating: -55℃~+155℃; ComponentLink1Description: Datasheet; ComponentLink1URL: https://wmsc.lcsc.com/wmsc/upload/file/pdf/v2/lcsc/1811141236_PANASONIC-ERJ12YJ243U_C278565.pdf; ComponentLink2Description: JLCPCB Part URL; ComponentLink2URL: https://jlcpcb.com/partdetail/C278565
pins: 1, 2
1 alternate drawing of the same symbol

## FRC1812F0000TS
designator R?  Resistance: 0Ω  (hidden comment: *)
Resistor, 0Ω, ±1%, 750mW, 200V, SMD 1812; Manufacturer: Uniroyal; Manufacturer Part Number: FRC1812F0000TS; Supplier 1: LCSC; Supplier Part Number 1: C2999613; JLCPCB Part Number: C2999613; Power Rating: 750mW; Category: Resistors; Package Size: 1812; JLCPCB Basic Part: Yes; Tolerance: ±1%; Voltage Rating: 200V; ComponentLink1Description: Datasheet; ComponentLink1URL: https://wmsc.lcsc.com/wmsc/upload/file/pdf/v2/lcsc/2308241947_FOJAN-FRC1812F0000TS_C2999613.pdf; ComponentLink2Description: JLCPCB Part URL; ComponentLink2URL: https://jlcpcb.com/partdetail/C2999613
pins: 1, 2
1 alternate drawing of the same symbol

## FRC1812F1R00TS
designator R?  Resistance: 1Ω  (hidden comment: *)
Resistor, 1Ω, ±1%, 750mW, 200V, ±200ppm/℃, -55℃~+155℃, SMD 1812; Manufacturer: Uniroyal; Manufacturer Part Number: FRC1812F1R00TS; Supplier 1: LCSC; Supplier Part Number 1: C2960846; JLCPCB Part Number: C2960846; Power Rating: 750mW; Category: Resistors; Package Size: 1812; JLCPCB Basic Part: Yes; Tolerance: ±1%; Voltage Rating: 200V; Temperature Coefficient: ±200ppm/℃; Temperature Rating: -55℃~+155℃; ComponentLink1Description: Datasheet; ComponentLink1URL: https://wmsc.lcsc.com/wmsc/upload/file/pdf/v2/lcsc/2308241947_FOJAN-FRC1812F1R00TS_C2960846.pdf; ComponentLink2Description: JLCPCB Part URL; ComponentLink2URL: https://jlcpcb.com/partdetail/C2960846
pins: 1, 2
1 alternate drawing of the same symbol

## FRC1812F2R00TS
designator R?  Resistance: 2Ω  (hidden comment: *)
Resistor, 2Ω, ±1%, 750mW, 200V, ±200ppm/℃, -55℃~+155℃, SMD 1812; Manufacturer: Uniroyal; Manufacturer Part Number: FRC1812F2R00TS; Supplier 1: LCSC; Supplier Part Number 1: C2933889; JLCPCB Part Number: C2933889; Power Rating: 750mW; Category: Resistors; Package Size: 1812; JLCPCB Basic Part: Yes; Tolerance: ±1%; Voltage Rating: 200V; Temperature Coefficient: ±200ppm/℃; Temperature Rating: -55℃~+155℃; ComponentLink1Description: Datasheet; ComponentLink1URL: https://wmsc.lcsc.com/wmsc/upload/file/pdf/v2/lcsc/2308241115_FOJAN-FRC1812F2R00TS_C2933889.pdf; ComponentLink2Description: JLCPCB Part URL; ComponentLink2URL: https://jlcpcb.com/partdetail/C2933889
pins: 1, 2
1 alternate drawing of the same symbol

## FRC1812F2R20TS
designator R?  Resistance: 2.2Ω  (hidden comment: *)
Resistor, 2.2Ω, ±1%, 750mW, 200V, ±200ppm/℃, -55℃~+155℃, SMD 1812; Manufacturer: Uniroyal; Manufacturer Part Number: FRC1812F2R20TS; Supplier 1: LCSC; Supplier Part Number 1: C2933890; JLCPCB Part Number: C2933890; Power Rating: 750mW; Category: Resistors; Package Size: 1812; JLCPCB Basic Part: Yes; Tolerance: ±1%; Voltage Rating: 200V; Temperature Coefficient: ±200ppm/℃; Temperature Rating: -55℃~+155℃; ComponentLink1Description: Datasheet; ComponentLink1URL: https://wmsc.lcsc.com/wmsc/upload/file/pdf/v2/lcsc/2308241115_FOJAN-FRC1812F2R20TS_C2933890.pdf; ComponentLink2Description: JLCPCB Part URL; ComponentLink2URL: https://jlcpcb.com/partdetail/C2933890
pins: 1, 2
1 alternate drawing of the same symbol

## FRC1812F2R40TS
designator R?  Resistance: 2.4Ω  (hidden comment: *)
Resistor, 2.4Ω, ±1%, 750mW, 200V, ±200ppm/℃, -55℃~+155℃, SMD 1812; Manufacturer: Uniroyal; Manufacturer Part Number: FRC1812F2R40TS; Supplier 1: LCSC; Supplier Part Number 1: C2933891; JLCPCB Part Number: C2933891; Power Rating: 750mW; Category: Resistors; Package Size: 1812; JLCPCB Basic Part: Yes; Tolerance: ±1%; Voltage Rating: 200V; Temperature Coefficient: ±200ppm/℃; Temperature Rating: -55℃~+155℃; ComponentLink1Description: Datasheet; ComponentLink1URL: https://wmsc.lcsc.com/wmsc/upload/file/pdf/v2/lcsc/2308241115_FOJAN-FRC1812F2R40TS_C2933891.pdf; ComponentLink2Description: JLCPCB Part URL; ComponentLink2URL: https://jlcpcb.com/partdetail/C2933891
pins: 1, 2
1 alternate drawing of the same symbol

## FRC1812F3R30TS
designator R?  Resistance: 3.3Ω  (hidden comment: *)
Resistor, 3.3Ω, ±1%, 750mW, 200V, ±200ppm/℃, -55℃~+155℃, SMD 1812; Manufacturer: Uniroyal; Manufacturer Part Number: FRC1812F3R30TS; Supplier 1: LCSC; Supplier Part Number 1: C2974075; JLCPCB Part Number: C2974075; Power Rating: 750mW; Category: Resistors; Package Size: 1812; JLCPCB Basic Part: Yes; Tolerance: ±1%; Voltage Rating: 200V; Temperature Coefficient: ±200ppm/℃; Temperature Rating: -55℃~+155℃; ComponentLink1Description: Datasheet; ComponentLink1URL: https://wmsc.lcsc.com/wmsc/upload/file/pdf/v2/lcsc/2202151130_FOJAN-FRC1812F3R30TS_C2974075.pdf; ComponentLink2Description: JLCPCB Part URL; ComponentLink2URL: https://jlcpcb.com/partdetail/C2974075
pins: 1, 2
1 alternate drawing of the same symbol

## FRC1812F4R70TS
designator R?  Resistance: 4.7Ω  (hidden comment: *)
Resistor, 4.7Ω, ±1%, 750mW, 200V, ±200ppm/℃, -55℃~+155℃, SMD 1812; Manufacturer: Uniroyal; Manufacturer Part Number: FRC1812F4R70TS; Supplier 1: LCSC; Supplier Part Number 1: C2933898; JLCPCB Part Number: C2933898; Power Rating: 750mW; Category: Resistors; Package Size: 1812; JLCPCB Basic Part: Yes; Tolerance: ±1%; Voltage Rating: 200V; Temperature Coefficient: ±200ppm/℃; Temperature Rating: -55℃~+155℃; ComponentLink1Description: Datasheet; ComponentLink1URL: https://wmsc.lcsc.com/wmsc/upload/file/pdf/v2/lcsc/2308241115_FOJAN-FRC1812F4R70TS_C2933898.pdf; ComponentLink2Description: JLCPCB Part URL; ComponentLink2URL: https://jlcpcb.com/partdetail/C2933898
pins: 1, 2
1 alternate drawing of the same symbol

## FRC1812F5R60TS
designator R?  Resistance: 5.6Ω  (hidden comment: *)
Resistor, 5.6Ω, ±1%, 750mW, 200V, ±200ppm/℃, -55℃~+155℃, SMD 1812; Manufacturer: Uniroyal; Manufacturer Part Number: FRC1812F5R60TS; Supplier 1: LCSC; Supplier Part Number 1: C2933904; JLCPCB Part Number: C2933904; Power Rating: 750mW; Category: Resistors; Package Size: 1812; JLCPCB Basic Part: Yes; Tolerance: ±1%; Voltage Rating: 200V; Temperature Coefficient: ±200ppm/℃; Temperature Rating: -55℃~+155℃; ComponentLink1Description: Datasheet; ComponentLink1URL: https://wmsc.lcsc.com/wmsc/upload/file/pdf/v2/lcsc/2308241115_FOJAN-FRC1812F5R60TS_C2933904.pdf; ComponentLink2Description: JLCPCB Part URL; ComponentLink2URL: https://jlcpcb.com/partdetail/C2933904
pins: 1, 2
1 alternate drawing of the same symbol

## FRC1812F6R20TS
designator R?  Resistance: 6.2Ω  (hidden comment: *)
Resistor, 6.2Ω, ±1%, 750mW, 200V, ±200ppm/℃, -55℃~+155℃, SMD 1812; Manufacturer: Uniroyal; Manufacturer Part Number: FRC1812F6R20TS; Supplier 1: LCSC; Supplier Part Number 1: C2933907; JLCPCB Part Number: C2933907; Power Rating: 750mW; Category: Resistors; Package Size: 1812; JLCPCB Basic Part: Yes; Tolerance: ±1%; Voltage Rating: 200V; Temperature Coefficient: ±200ppm/℃; Temperature Rating: -55℃~+155℃; ComponentLink1Description: Datasheet; ComponentLink1URL: https://wmsc.lcsc.com/wmsc/upload/file/pdf/v2/lcsc/2308241115_FOJAN-FRC1812F6R20TS_C2933907.pdf; ComponentLink2Description: JLCPCB Part URL; ComponentLink2URL: https://jlcpcb.com/partdetail/C2933907
pins: 1, 2
1 alternate drawing of the same symbol

## FRC1812F10R0TS
designator R?  Resistance: 10Ω  (hidden comment: *)
Resistor, 10Ω, ±1%, 750mW, 200V, ±100ppm/℃, -55℃~+155℃, SMD 1812; Manufacturer: Uniroyal; Manufacturer Part Number: FRC1812F10R0TS; Supplier 1: LCSC; Supplier Part Number 1: C2933875; JLCPCB Part Number: C2933875; Power Rating: 750mW; Category: Resistors; Package Size: 1812; JLCPCB Basic Part: Yes; Tolerance: ±1%; Voltage Rating: 200V; Temperature Coefficient: ±100ppm/℃; Temperature Rating: -55℃~+155℃; ComponentLink1Description: Datasheet; ComponentLink1URL: https://wmsc.lcsc.com/wmsc/upload/file/pdf/v2/lcsc/2308241115_FOJAN-FRC1812F10R0TS_C2933875.pdf; ComponentLink2Description: JLCPCB Part URL; ComponentLink2URL: https://jlcpcb.com/partdetail/C2933875
pins: 1, 2
1 alternate drawing of the same symbol

## FRC1812F20R0TS
designator R?  Resistance: 20Ω  (hidden comment: *)
Resistor, 20Ω, ±1%, 750mW, 200V, ±100ppm/℃, -55℃~+155℃, SMD 1812; Manufacturer: Uniroyal; Manufacturer Part Number: FRC1812F20R0TS; Supplier 1: LCSC; Supplier Part Number 1: C2933884; JLCPCB Part Number: C2933884; Power Rating: 750mW; Category: Resistors; Package Size: 1812; JLCPCB Basic Part: Yes; Tolerance: ±1%; Voltage Rating: 200V; Temperature Coefficient: ±100ppm/℃; Temperature Rating: -55℃~+155℃; ComponentLink1Description: Datasheet; ComponentLink1URL: https://wmsc.lcsc.com/wmsc/upload/file/pdf/v2/lcsc/2308241115_FOJAN-FRC1812F20R0TS_C2933884.pdf; ComponentLink2Description: JLCPCB Part URL; ComponentLink2URL: https://jlcpcb.com/partdetail/C2933884
pins: 1, 2
1 alternate drawing of the same symbol

## FRC1812F22R0TS
designator R?  Resistance: 22Ω  (hidden comment: *)
Resistor, 22Ω, ±1%, 750mW, 200V, ±100ppm/℃, SMD 1812; Manufacturer: Uniroyal; Manufacturer Part Number: FRC1812F22R0TS; Supplier 1: LCSC; Supplier Part Number 1: C3013291; JLCPCB Part Number: C3013291; Power Rating: 750mW; Category: Resistors; Package Size: 1812; JLCPCB Basic Part: Yes; Tolerance: ±1%; Voltage Rating: 200V; Temperature Coefficient: ±100ppm/℃; ComponentLink1Description: Datasheet; ComponentLink1URL: https://wmsc.lcsc.com/wmsc/upload/file/pdf/v2/lcsc/2308241947_FOJAN-FRC1812F22R0TS_C3013291.pdf; ComponentLink2Description: JLCPCB Part URL; ComponentLink2URL: https://jlcpcb.com/partdetail/C3013291
pins: 1, 2
1 alternate drawing of the same symbol

## FRC1812F24R0TS
designator R?  Resistance: 24Ω  (hidden comment: *)
Resistor, 24Ω, ±1%, 750mW, 200V, ±100ppm/℃, -55℃~+155℃, SMD 1812; Manufacturer: Uniroyal; Manufacturer Part Number: FRC1812F24R0TS; Supplier 1: LCSC; Supplier Part Number 1: C2933887; JLCPCB Part Number: C2933887; Power Rating: 750mW; Category: Resistors; Package Size: 1812; JLCPCB Basic Part: Yes; Tolerance: ±1%; Voltage Rating: 200V; Temperature Coefficient: ±100ppm/℃; Temperature Rating: -55℃~+155℃; ComponentLink1Description: Datasheet; ComponentLink1URL: https://wmsc.lcsc.com/wmsc/upload/file/pdf/v2/lcsc/2308241115_FOJAN-FRC1812F24R0TS_C2933887.pdf; ComponentLink2Description: JLCPCB Part URL; ComponentLink2URL: https://jlcpcb.com/partdetail/C2933887
pins: 1, 2
1 alternate drawing of the same symbol

## FRC1812F27R0TS
designator R?  Resistance: 27Ω  (hidden comment: *)
Resistor, 27Ω, ±1%, 750mW, 200V, ±100ppm/℃, -55℃~+155℃, SMD 1812; Manufacturer: Uniroyal; Manufacturer Part Number: FRC1812F27R0TS; Supplier 1: LCSC; Supplier Part Number 1: C2933888; JLCPCB Part Number: C2933888; Power Rating: 750mW; Category: Resistors; Package Size: 1812; JLCPCB Basic Part: Yes; Tolerance: ±1%; Voltage Rating: 200V; Temperature Coefficient: ±100ppm/℃; Temperature Rating: -55℃~+155℃; ComponentLink1Description: Datasheet; ComponentLink1URL: https://wmsc.lcsc.com/wmsc/upload/file/pdf/v2/lcsc/2308241115_FOJAN-FRC1812F27R0TS_C2933888.pdf; ComponentLink2Description: JLCPCB Part URL; ComponentLink2URL: https://jlcpcb.com/partdetail/C2933888
pins: 1, 2
1 alternate drawing of the same symbol

## FRC1812F33R0TS
designator R?  Resistance: 33Ω  (hidden comment: *)
Resistor, 33Ω, ±1%, 750mW, 200V, ±100ppm/℃, -55℃~+155℃, SMD 1812; Manufacturer: Uniroyal; Manufacturer Part Number: FRC1812F33R0TS; Supplier 1: LCSC; Supplier Part Number 1: C2933894; JLCPCB Part Number: C2933894; Power Rating: 750mW; Category: Resistors; Package Size: 1812; JLCPCB Basic Part: Yes; Tolerance: ±1%; Voltage Rating: 200V; Temperature Coefficient: ±100ppm/℃; Temperature Rating: -55℃~+155℃; ComponentLink1Description: Datasheet; ComponentLink1URL: https://wmsc.lcsc.com/wmsc/upload/file/pdf/v2/lcsc/2308241115_FOJAN-FRC1812F33R0TS_C2933894.pdf; ComponentLink2Description: JLCPCB Part URL; ComponentLink2URL: https://jlcpcb.com/partdetail/C2933894
pins: 1, 2
1 alternate drawing of the same symbol

## FRC1812F39R0TS
designator R?  Resistance: 39Ω  (hidden comment: *)
Resistor, 39Ω, ±1%, 750mW, 200V, ±100ppm/℃, SMD 1812; Manufacturer: Uniroyal; Manufacturer Part Number: FRC1812F39R0TS; Supplier 1: LCSC; Supplier Part Number 1: C3013293; JLCPCB Part Number: C3013293; Power Rating: 750mW; Category: Resistors; Package Size: 1812; JLCPCB Basic Part: Yes; Tolerance: ±1%; Voltage Rating: 200V; Temperature Coefficient: ±100ppm/℃; ComponentLink1Description: Datasheet; ComponentLink1URL: https://wmsc.lcsc.com/wmsc/upload/file/pdf/v2/lcsc/2308241947_FOJAN-FRC1812F39R0TS_C3013293.pdf; ComponentLink2Description: JLCPCB Part URL; ComponentLink2URL: https://jlcpcb.com/partdetail/C3013293
pins: 1, 2
1 alternate drawing of the same symbol

## FRC1812F51R0TS
designator R?  Resistance: 51Ω  (hidden comment: *)
Resistor, 51Ω, ±1%, 750mW, 200V, ±100ppm/℃, -55℃~+155℃, SMD 1812; Manufacturer: Uniroyal; Manufacturer Part Number: FRC1812F51R0TS; Supplier 1: LCSC; Supplier Part Number 1: C2933901; JLCPCB Part Number: C2933901; Power Rating: 750mW; Category: Resistors; Package Size: 1812; JLCPCB Basic Part: Yes; Tolerance: ±1%; Voltage Rating: 200V; Temperature Coefficient: ±100ppm/℃; Temperature Rating: -55℃~+155℃; ComponentLink1Description: Datasheet; ComponentLink1URL: https://wmsc.lcsc.com/wmsc/upload/file/pdf/v2/lcsc/2308241115_FOJAN-FRC1812F51R0TS_C2933901.pdf; ComponentLink2Description: JLCPCB Part URL; ComponentLink2URL: https://jlcpcb.com/partdetail/C2933901
pins: 1, 2
1 alternate drawing of the same symbol